# Altium footprint library PCB - LEADLESS - LFCSP - AD LFCSP-24 CP-24-7.PcbLib: 1 footprints
Each footprint in its own frame and in the unit in brackets; x right, y up, seen from the top. Pads: shape width x height; smd on the part's side, far side on the other; paste and mask are expansions set on the pad; w line width, h text height; cw(c..) or ccw(c..) is an arc to the next point about the centre after c.
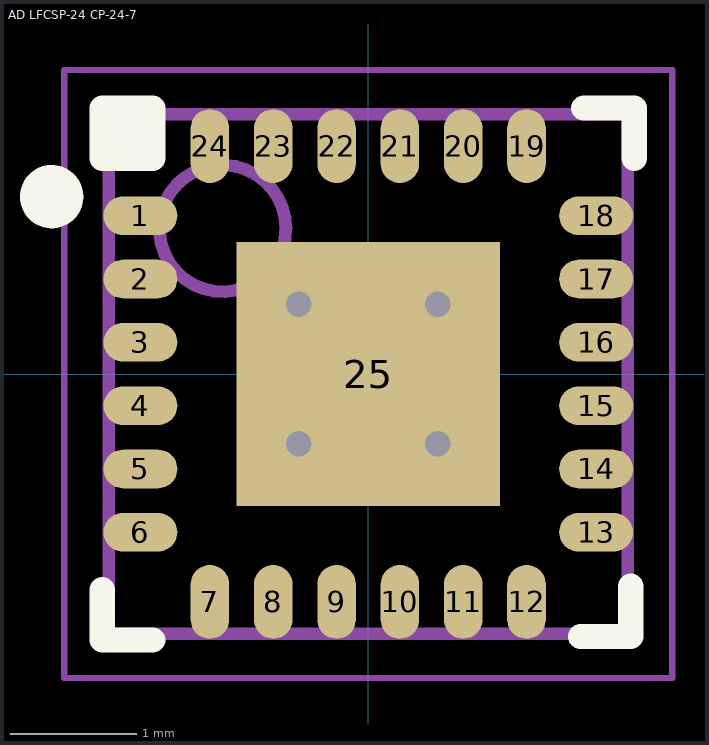
[diagram p0: the footprint, top view; thin cyan lines are the x and y axes]

## AD LFCSP-24 CP-24-7 [mil] "LFCSP, 24-Leads, Body 4.00x4.00mm, Pitch 0.50mm, Thermal Pad 2.5x2.5mm"
height 31.5
pads (25):
  oval 23x12 smd: 1(-70.84,49.21) 2(-70.84,29.53) 3(-70.84,9.84) 4(-70.84,-9.84) 5(-70.84,-29.53) 6(-70.84,-49.21) 13(70.84,-49.21) 14(70.84,-29.53) 15(70.84,-9.84) 16(70.84,9.84) 17(70.84,29.53) 18(70.84,49.21)
  oval 12x23 smd: 7(-49.21,-70.84) 8(-29.53,-70.84) 9(-9.84,-70.84) 10(9.84,-70.84) 11(29.53,-70.84) 12(49.21,-70.84) 19(49.21,70.84) 20(29.53,70.84) 21(9.84,70.84) 22(-9.84,70.84) 23(-29.53,70.84) 24(-49.21,70.84)
  rect 82x82 smd: 25(0,0)
via -21.65,21.65 diameter 19.68 hole 7.87
via 21.65,21.65 diameter 19.68 hole 7.87
via -21.65,-21.65 diameter 19.68 hole 7.87
via 21.65,-21.65 diameter 19.68 hole 7.87
Top Overlay:
  circle w9.84: c-98.43,55.12 r4.92
  rectangle: -82.68,67.02 -67.02,82.68
  lines w7.87: -82.68,-67.02 -82.68,-82.68 -67.02,-82.68 ; 65.96,-81.61 81.61,-81.61 81.61,-65.96 ; 67.02,82.68 82.68,82.68 82.68,67.02 ; -82.68,67.02 -67.02,67.02 -67.02,82.68 -82.68,82.68 -82.68,67.02
Mechanical 13:
  circle w3.94: c-45.28,45.28 r19.68
  lines w3.94: -80.71,-80.71 -80.71,80.71 80.71,80.71 80.71,-80.71 -80.71,-80.71
Mechanical 15:
  lines w1.97: -94.49,-94.49 -94.49,94.49 94.49,94.49 94.49,-94.49 -94.49,-94.49
  lines w3.94: -19.68,0 19.68,0 ; 0,-19.68 0,19.68
3D body "AD LFCSP-24 CP-24-7.step": height 31.5, standoff 0, extent -82.68,-82.68 82.68,82.68